# Altium schematic symbol library CON_2X1.Schlib: 1 symbol
Pins are listed as number, name and electrical type; pins without a type are passive.

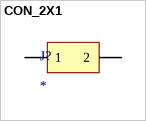
[diagram p0: symbol CON_2X1]

## CON_2X1
designator J?
pins: 1, 2